# Altium schematic symbol library SN74LVC1G175.SchLib: 1 symbol
Pins are listed as number, name and electrical type; pins without a type are passive.

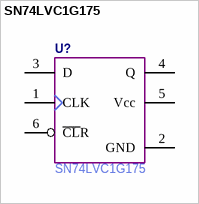
[diagram p0: symbol SN74LVC1G175]

## SN74LVC1G175
designator U?
Flip-Flops Sngl DType Flip Flop; Manufacturer Part Number: SN74LVC1G175
pins: 1 CLK, 2 GND, 3 D, 4 Q, 5 Vcc, 6 ~{CL}R